# Altium schematic symbol library MISC.SchLib: 17 symbols
Pins are listed as number, name and electrical type; pins without a type are passive.

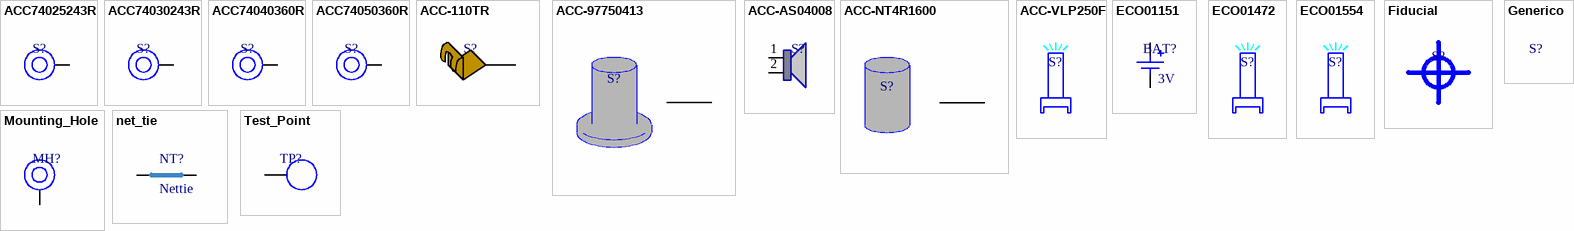
[diagram p0: symbols ACC74025243R to Test_Point]

## ACC74025243R
designator S?
Steel Spacer. Round Standoff Threaded M2x0.4 Steel 0.098" (2.50mm); Manufacturer Part Number: 9774025243R; Manufacturer: Würth Elektronik; Working Temperature: -55º to 150º; Short Description: RND STANDOFF M2X0.4 STEEL 2.5MM; Temperature Coefficient: *; Mounting: SMD; Power: *; Ratings: *; Type: Round Standoff; Frequency: *; Alternate Part Number 1: *; Alternate Part Number 2: *; Tolerance: *; Current: *; Revision Date: 31/03/23; Package Reference: *; Voltage: *; Value: *
footprint 9774025243 (SMT Steel Spacer with internal Thread M2, height 2.5mm)
pins: 1

## ACC74030243R
designator S?
Steel Spacer. Round Standoff Threaded M2x0.4 Steel 0.118" (3.00mm); Manufacturer Part Number: 9774030243R; Manufacturer: Würth Elektronik; Working Temperature: -55º to 150º; Short Description: RND STANDOFF M2X0.4 STEEL 3MM; Temperature Coefficient: *; Mounting: SMD; Power: *; Ratings: *; Type: Round Standoff; Frequency: *; Alternate Part Number 1: *; Alternate Part Number 2: *; Tolerance: *; Current: *; Revision Date: 01/05/23; Package Reference: *; Voltage: *; Value: *
footprint 9774030243 (SMT Steel Spacer with internal Thread M2, height 3mm)
pins: 1

## ACC74040360R
designator S?
Steel Spacer. Round Standoff Threaded M3x0.5 Steel 0.157" (4.00mm); Manufacturer Part Number: 9774040360R; Manufacturer: Würth Elektronik; Working Temperature: -55º to 150º; Short Description: ROUND STANDOFF M3X0.5 STEEL 4MM; Temperature Coefficient: *; Mounting: SMD; Power: *; Ratings: *; Type: Round Standoff; Frequency: *; Alternate Part Number 1: *; Alternate Part Number 2: *; Tolerance: *; Current: *; Revision Date: 31/03/23; Package Reference: *; Voltage: *; Value: *
footprint 9774040360 (Steel Spacer M3 Thread Internal, Length 4mm)
pins: 1

## ACC74050360R
designator S?
Steel Spacer. Round Standoff Threaded M3x0.5 Steel 0.197" (5.00mm); Manufacturer Part Number: 9774050360R; Manufacturer: Würth Elektronik; Working Temperature: -55º to 150º; Short Description: ROUND STANDOFF M3X0.5 STEEL 5MM; Temperature Coefficient: *; Mounting: SMD; Power: *; Ratings: *; Type: Round Standoff; Frequency: *; Alternate Part Number 1: *; Alternate Part Number 2: *; Tolerance: *; Current: *; Revision Date: 01/05/23; Package Reference: *; Voltage: *; Value: *
footprint 9774050360 (M3 Thread Internal, Length 5mm)
pins: 1

## ACC-110TR
designator S?
Battery Contact Spring (Leaf) Multiple 1 Cell SMD (SMT) Tab; Manufacturer Part Number: 110TR; Manufacturer: Keystone Electronics; Working Temperature: NC; Short Description: BATT CONT SPRING MULT 1 CELL SMD; Ratings: REACH, ROHS3; Value: NC; Temperature Coefficient: NC; Mounting: SMT; Power: NC; Type: NC; Frequency: NC; Alternate Part Number 1: *; Alternate Part Number 2: *; Tolerance: NC; Current: NC; Revision Date: 06/05/22; Package Reference: NC; Voltage: NC
footprint 110TR
pins: 1

## ACC-97750413
designator S?
Round Standoff Threaded M3 Steel 0.039" (1.00mm) -; Manufacturer Part Number: *; Working Temperature: *; Temperature Coefficient: *; Mounting: *; Short Description: *; Power: *; Ratings: *; Type: *; Frequency: *; Alternate Part Number 1: *; Alternate Part Number 2: *; Manufacturer: *; Tolerance: *; Current: *; Revision Date: *; Package Reference: *; Voltage: *; Value: *
pins: 0

## ACC-AS04008
designator S?
8 Ohms General Purpose Speaker 2 W 200 Hz ~ 20 kHz Top Oval, Rectangular Frame; Manufacturer Part Number: AS04008CO-WR-R; Manufacturer: PUI Audio, Inc.; Working Temperature: NC; Mounting: NC; Short Description: SPEAKER 8OHM 2W 83DB 20X40MM; Power: 2W; Ratings: ROHS3; Value: NC; Temperature Coefficient: NC; Type: NC; Frequency: 200 Hz ~ 20 kHz; Alternate Part Number 1: *; Alternate Part Number 2: *; Tolerance: NC; Current: NC; Revision Date: 16/11/21; Package Reference: NC; Voltage: NC
pins: 1, 2

## ACC-NT4R1600
designator S?
Connector Standoff For PCI Express Mini Card; Manufacturer Part Number: NT4R1600; Manufacturer: JAE Electronics; Working Temperature: NC; Mounting: NC; Short Description: STANDOFF FOR MM60 SERIES; Ratings: ROHS; Value: NC; Temperature Coefficient: NC; Power: NC; Type: NC; Frequency: NC; Alternate Part Number 1: *; Alternate Part Number 2: *; Tolerance: NC; Current: NC; Revision Date: 03/08/21; Package Reference: NC; Voltage: NC
pins: 0

## ACC-VLP250F
designator S?
Light Pipe Single Clear Rigid Board Mount, Press Fit; Manufacturer Part Number: VLP-250-F; Manufacturer: Bivar Inc.; Working Temperature: NC; Short Description: LIGHT PIPE CLEAR 3MM LENS FLAT; Ratings: ROHS3; Value: NC; Temperature Coefficient: NC; Mounting: THT; Power: NC; Type: NC; Frequency: NC; Alternate Part Number 1: *; Alternate Part Number 2: *; Tolerance: NC; Current: NC; Revision Date: 04/05/22; Package Reference: NC; Voltage: NC
footprint VLP-250-F (Light Pipe Vert SMD Flat Face)

## ECO01151
designator BAT?  value 3V
Battery Lithium coin 3V 20mm horizontal; Manufacturer Part Number: VL-2020/HFN; Manufacturer: Panasonic - BSG; Working Temperature: NC; Short Description: BATT LITH 3V 20MAH COIN 20.0MM; Temperature Coefficient: NC; Mounting: PC Pin (Horizontal Mount); Power: NC; Ratings: NC; Type: NC; Frequency: NC; Alternate Part Number 1: *; Alternate Part Number 2: *; Tolerance: NC; Current: NC; Revision Date: 02/01/22; Package Reference: Coin, 20.0mm; Voltage: 3V; ComponentLink1Description: Datasheet; ComponentLink1URL: https://api.pim.na.industrial.panasonic.com/file_stream/main/fileversion/3570; ComponentLink2Description: Product page; ComponentLink2URL: https://industrial.panasonic.com/ww/products/pt/coin_rechargeable_lithium/models/VL2020
footprint VL-2020/HFN ((21.5mm x 20.3mm x 4.5mm))
pins: 1 (power), 2 (power)

## ECO01472
designator S?
Light Pipe Single Clear Rigid Board Mount, Press Fit; Manufacturer Part Number: VLP-200-F; Manufacturer: Bivar Inc.; Working Temperature: NC; Mounting: NC; Short Description: LIGHT PIPE VERT 0.200" FLAT FACE; Ratings: ROHS3; Value: NC; Temperature Coefficient: NC; Power: NC; Type: NC; Frequency: NC; Alternate Part Number 1: *; Alternate Part Number 2: *; Tolerance: NC; Current: NC; Revision Date: 02/09/21; Package Reference: NC; Voltage: NC
footprint VLP-200-F (Footprint not found)

## ECO01554
designator S?
Light Pipe Single Clear Rigid Board Mount, Press Fit; Manufacturer Part Number: VLP-650-F; Manufacturer: Bivar Inc.; Working Temperature: NC; Short Description: LIGHT PIPE RIGID 3.00MM; Ratings: ROHS; Value: NC; Temperature Coefficient: NC; Mounting: THT; Power: NC; Type: NC; Frequency: NC; Alternate Part Number 1: *; Alternate Part Number 2: *; Tolerance: NC; Current: NC; Revision Date: 14/06/23; Package Reference: NC; Voltage: NC
footprint VLP-650-F

## Fiducial
designator S?  (no BOM)
Fiducial Mark; Working Temperature: NC; Short Description: Fiducail Mark; Value: NC; Temperature Coefficient: NC; Type: NC; Alternate Part Number 1: *; Alternate Part Number 2: *; Tolerance: NC; Revision Date: 31/1/23; Voltage: NC
footprint FIDROUND1X2 (Fiducial rounded 1mm - 2mm)

## Generico
designator S?
Manufacturer Part Number: 9775041360R; Manufacturer: Würth Elektronik; Working Temperature: NC; Mounting: NC; Short Description: ROUND STANDOFF M3 STEEL 1MM; Ratings: ROHS3; Value: NC; Temperature Coefficient: NC; Power: NC; Type: NC; Frequency: NC; Alternate Part Number 1: *; Alternate Part Number 2: *; Tolerance: NC; Current: NC; Revision Date: 03/08/21; Package Reference: NC; Voltage: NC

## Mounting_Hole
designator MH?  (no BOM)
Mounting Hole; Manufacturer Part Number: NC; Mounting: NC; Value: NC; Working Temperature: NC; Temperature Coefficient: NC; Short Description: Mounting Hole; Power: NC; Ratings: NC; Type: NC; Frequency: NC; Alternate Part Number 1: NC; Alternate Part Number 2: NC; Manufacturer: NC; Tolerance: NC; Current: NC; Revision Date: 03/04/23; Package Reference: NC; Voltage: NC
footprint mounting_hole
footprint MOUNTING_HOLE_3MM
pins: 1

## net_tie
designator NT?, comment Nettie  (net tie, no BOM)
There are situations when you need to intentionally connect two different nets. This is not a simple naming issue. It is when two nets need to be shorted as a design requirement. An example could be when you need to connect an Analog ground and a Digital ground in a controlled way.
footprint NETTIE
pins: 1, 2

## Test_Point
designator TP?  (no BOM)
Test point; Manufacturer Part Number: NC; Mounting: NC; Value: NC; Working Temperature: NC; Temperature Coefficient: NC; Short Description: Test point; Power: NC; Ratings: NC; Type: NC; Frequency: NC; Alternate Part Number 1: NC; Alternate Part Number 2: NC; Manufacturer: NC; Tolerance: NC; Current: NC; Revision Date: 03/04/23; Package Reference: NC; Voltage: NC
footprint Test_point
pins: 1